# Altium schematic symbol library Other-Library.SchLib: 3 symbols
Pins are listed as number, name and electrical type; pins without a type are passive.

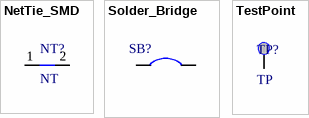
[diagram p0: symbols NetTie_SMD to TestPoint]

## NetTie_SMD
designator NT?, comment NT  (net tie, no BOM)
Net Tie SMD
footprint NetTie_SMD
pins: 1, 2

## Solder_Bridge
designator SB?
Bridge 0.5mm gap, 2mm width
footprint Solder Bridge
pins: 1, 2

## TestPoint
designator TP?, comment TP
footprint Test_Point
pins: 1